# EAGLE library part 74HC688 (library IC)
8Bit Comparator Only EQ
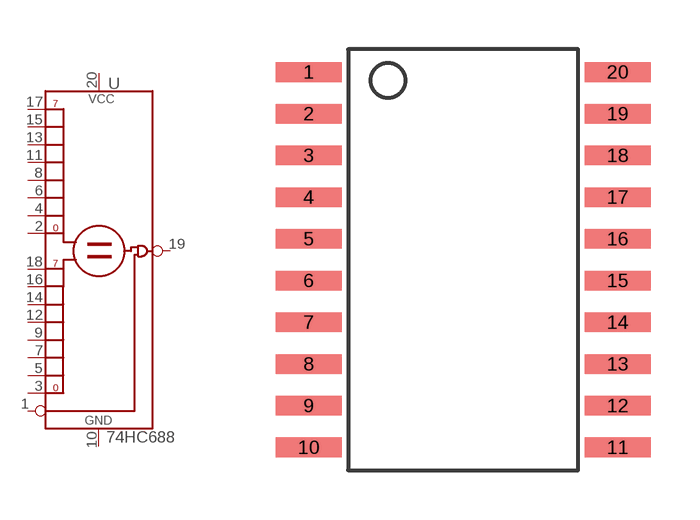
[diagram p18: symbol with the pads of SOIC-7.5MM-20; footprint SOIC-7.5MM-20]

Designator prefix U

## 74HC688 (MPN: 74HC688D,653)  [SOIC-7.5MM-20]
1  !EN
2  A0
3  B0
4  A1
5  B1
6  A2
7  B2
8  A3
9  B3
10  GND
11  A4
12  B4
13  A5
14  B5
15  A6
16  B6
17  A7
18  B7
19  !EQ
20  VCC

## Footprint SOIC-7.5MM-20 (pad centres in mm)
smd 2 x 0.6: 1 -4.7,5.737; 2 -4.7,4.466; 3 -4.7,3.196; 4 -4.7,1.927; 5 -4.7,0.656; 6 -4.7,-0.614; 7 -4.7,-1.883; 8 -4.7,-3.154; 9 -4.7,-4.423; 10 -4.7,-5.694; 11 4.7,-5.694; 12 4.7,-4.423; 13 4.7,-3.154; 14 4.7,-1.883; 15 4.7,-0.614; 16 4.7,0.656; 17 4.7,1.927; 18 4.7,3.196; 19 4.7,4.466; 20 4.7,5.737